# Altium schematic symbol library 5040500991.SchLib: 1 symbol
Pins are listed as number, name and electrical type; pins without a type are passive.

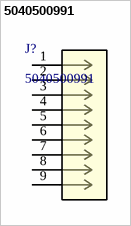
[diagram p0: symbol 5040500991]

## 5040500991
designator J?
1.50mm Pitch, Pico-Lock PCB Header, Single Row, Right-Angle, Surface Mount, Gold (Au) Plating, Positive Lock, 9 Circuits, Tape and Reel; Manufacturer_Name: Molex Connector Corporation; Copyright: Copyright (C) 2025 Ultra Librarian. All rights reserved.; Manufacturer_Part_Number: 5040500991; RefDes: RefDes; Type: Type
footprint CONN_5040500991_MOL
pins: 1, 2, 3, 4, 5, 6, 7, 8, 9